# EAGLE library part PAM2306AYPKE (library custom)
PAM2306 Series 5.5V 1A Dual High Efficiency PWM Step Down DC-DC Converter-WDFN12
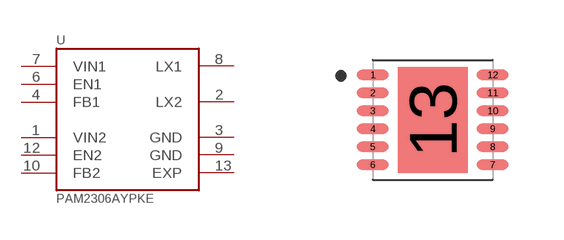
[diagram p14: symbol with the pads of SON45P300X300X80-13N; footprint SON45P300X300X80-13N]

Designator prefix U

## PAM2306AYPKE (AVAILABILITY: Good; DESCRIPTION: PAM2306 Series 1.8V/3.3V 1 A Dual High Efficiency PWM Step Down DC-DC Conveter; MF: Diodes Inc.; MP: PAM2306AYPKE; PACKAGE: WFDFN-12 Diodes Inc.; PRICE: 0.38 USD)  [SON45P300X300X80-13N]
1  VIN2  in
2  LX2  out
3  GND  pwr
4  FB1  in
6  EN1  in
7  VIN1  in
8  LX1  out
9  GND  pwr
10  FB2  in
12  EN2  in
13  EXP  pwr

## Footprint SON45P300X300X80-13N (pad centres in mm)
smd 0.8 x 0.25: 1 -1.5,1.125; 2 -1.5,0.675; 3 -1.5,0.225; 4 -1.5,-0.225; 5 -1.5,-0.675; 6 -1.5,-1.125; 7 1.5,-1.125; 8 1.5,-0.675; 9 1.5,-0.225; 10 1.5,0.225; 11 1.5,0.675; 12 1.5,1.125
smd 1.75 x 2.65: 13 0,0